# EAGLE library part NCP5351 (library IC)
On-Semi NCP5351 , 4A Synchronous Buck Power MOSFET Driver
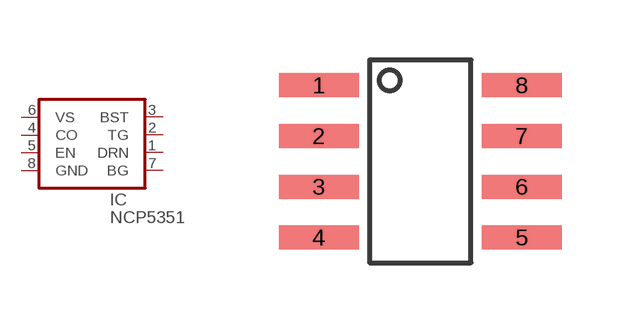
[diagram p119: symbol with the pads of SO8; footprint SO8]

Designator prefix IC

## NCP5351D  [SO8]
1  DRN
2  TG
3  BST
4  CO
5  EN
6  VS
7  BG
8  GND

## Footprint SO8 (pad centres in mm)
smd 2 x 0.6: 1 -2.54,1.905; 2 -2.54,0.635; 3 -2.54,-0.635; 4 -2.54,-1.905; 5 2.54,-1.905; 6 2.54,-0.635; 7 2.54,0.635; 8 2.54,1.905